# EAGLE library part PD70224 (library MicroSemi_PoE_PSE)
MicroSemi PD70224 - Dual Ideal Diode Bridge
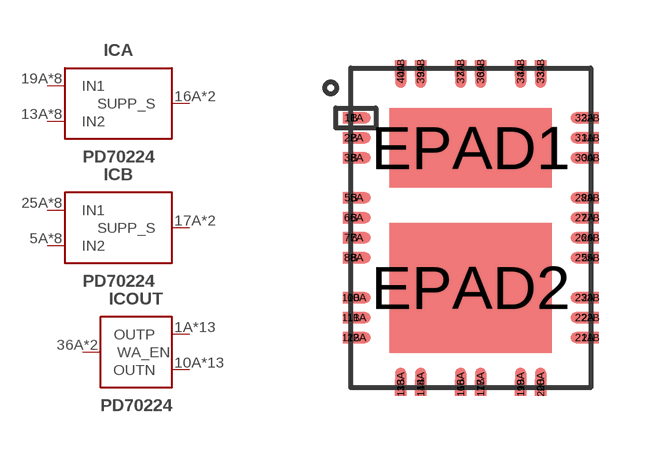
[diagram p5: symbol with the pads of PD70224; footprint PD70224]

Designator prefix IC; gates A=PD70224_IN B=PD70224_IN OUT=PD70224_OUT

## PD70224  [PD70224]
1A  OUT:OUTP  out
1B  OUT:OUTP  out
2A  OUT:OUTP  out
2B  OUT:OUTP  out
3A  OUT:OUTP  out
3B  OUT:OUTP  out
5A  B:IN2  in
5B  B:IN2  in
6A  B:IN2  in
6B  B:IN2  in
7A  B:IN2  in
7B  B:IN2  in
8A  B:IN2  in
8B  B:IN2  in
10A  OUT:OUTN  out
10B  OUT:OUTN  out
11A  OUT:OUTN  out
11B  OUT:OUTN  out
12A  OUT:OUTN  out
12B  OUT:OUTN  out
13A  A:IN2  in
13B  A:IN2  in
14A  A:IN2  in
14B  A:IN2  in
16A  A:SUPP_S  out
16B  A:SUPP_S  out
17A  B:SUPP_S  out
17B  B:SUPP_S  out
19A  A:IN1  in
19B  A:IN1  in
20A  A:IN1  in
20B  A:IN1  in
21A  OUT:OUTN  out
21B  OUT:OUTN  out
22A  OUT:OUTN  out
22B  OUT:OUTN  out
23A  OUT:OUTN  out
23B  OUT:OUTN  out
25A  B:IN1  in
25B  B:IN1  in
26A  B:IN1  in
26B  B:IN1  in
27A  B:IN1  in
27B  B:IN1  in
28A  B:IN1  in
28B  B:IN1  in
30A  OUT:OUTP  out
30B  OUT:OUTP  out
31A  OUT:OUTP  out
31B  OUT:OUTP  out
32A  OUT:OUTP  out
32B  OUT:OUTP  out
33A  A:IN1  in
33B  A:IN1  in
34A  A:IN1  in
34B  A:IN1  in
36A  OUT:WA_EN  in
36B  OUT:WA_EN  in
39A  A:IN2  in
39B  A:IN2  in
40A  A:IN2  in
40B  A:IN2  in
EPAD1  OUT:OUTP  out
EPAD2  OUT:OUTN  out

## Footprint PD70224 (pad centres in mm)
smd 0.7 x 0.28: 1A -2.85,2.75; 2A -2.85,2.25; 3A -2.85,1.75; 5A -2.85,0.75; 6A -2.85,0.25; 7A -2.85,-0.25; 8A -2.85,-0.75; 10A -2.85,-1.75; 11A -2.85,-2.25; 12A -2.85,-2.75; 21A 2.85,-2.75; 22A 2.85,-2.25; 23A 2.85,-1.75; 25A 2.85,-0.75; 26A 2.85,-0.25; 27A 2.85,0.25; 28A 2.85,0.75; 30A 2.85,1.75; 31A 2.85,2.25; 32A 2.85,2.75
smd 0.4 x 0.28: 1B -3,2.75; 2B -3,2.25; 3B -3,1.75; 5B -3,0.75; 6B -3,0.25; 7B -3,-0.25; 8B -3,-0.75; 10B -3,-1.75; 11B -3,-2.25; 12B -3,-2.75; 21B 3,-2.75; 22B 3,-2.25; 23B 3,-1.75; 25B 3,-0.75; 26B 3,-0.25; 27B 3,0.25; 28B 3,0.75; 30B 3,1.75; 31B 3,2.25; 32B 3,2.75
smd 0.28 x 0.7: 13A -1.75,-3.85; 14A -1.25,-3.85; 16A -0.25,-3.85; 17A 0.25,-3.85; 19A 1.25,-3.85; 20A 1.75,-3.85; 33A 1.75,3.85; 34A 1.25,3.85; 36A 0.25,3.85; 37A -0.25,3.85; 39A -1.25,3.85; 40A -1.75,3.85
smd 0.28 x 0.4: 13B -1.75,-4; 14B -1.25,-4; 16B -0.25,-4; 17B 0.25,-4; 19B 1.25,-4; 20B 1.75,-4; 33B 1.75,4; 34B 1.25,4; 36B 0.25,4; 37B -0.25,4; 39B -1.25,4; 40B -1.75,4
smd 4.06 x 1.98: EPAD1 0,2
smd 4.06 x 3.25: EPAD2 0,-1.5